# Altium footprint library WE-SHC.PcbLib: 139 footprints (part 5 of 10)
Each footprint in its own frame and in the unit in brackets; x right, y up, seen from the top. Pads: shape width x height; smd on the part's side, far side on the other; paste and mask are expansions set on the pad; w line width, h text height; cw(c..) or ccw(c..) is an arc to the next point about the centre after c.
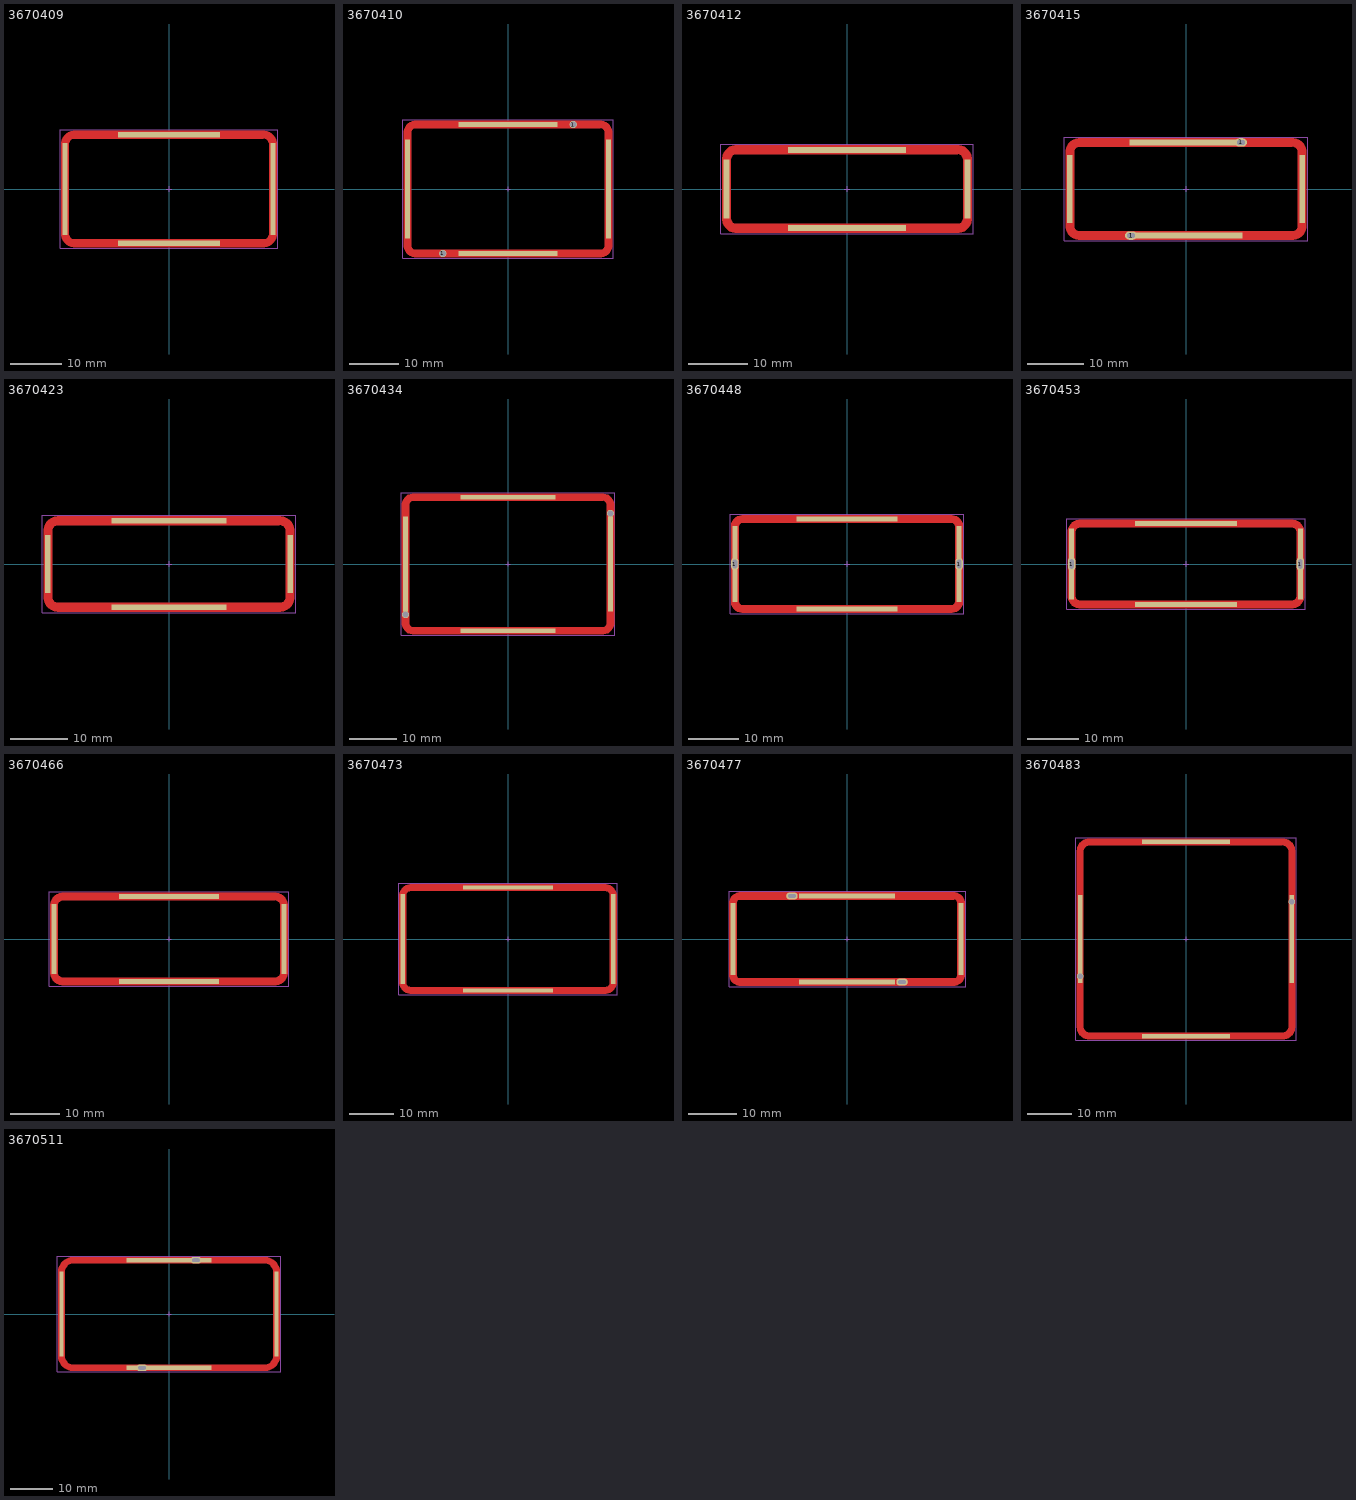
[diagram p4: the footprints below, top view; thin cyan lines are the x and y axes]

## 3670409 [mm] "Shielding Cabinet, SMT Frame Seamless, 40.9x21.5x2.5mm"
height 2.5
pads (4):
  rect 1x18 smd paste-2539.97 mask-2222: 1(-20.3,0) 1(20.3,0)
  rect 20x1 smd paste-2539.97 mask-2222: 1(0,-10.6) 1(0,10.6)
Top Layer:
  region: -21.05,-0.25 -21.05,-8.75 -21.05,-9.006 -20.95,-9.508 -20.754,-9.982 -20.47,-10.407 -20.107,-10.77 -19.682,-11.054 -19.208,-11.25 -18.706,-11.35 -18.45,-11.35 18.45,-11.35 18.706,-11.35 19.208,-11.25 19.682,-11.054 20.107,-10.77 20.47,-10.407 20.754,-9.982 20.95,-9.508 21.05,-9.006 21.05,-8.75 21.05,-0.25 19.55,-0.25 19.55,-8.75 19.545,-8.858 19.503,-9.069 19.42,-9.269 19.3,-9.448 19.148,-9.6 18.969,-9.72 18.769,-9.803 18.558,-9.845 18.45,-9.85 -18.45,-9.85 -18.558,-9.845 -18.769,-9.803 -18.969,-9.72 -19.148,-9.6 -19.3,-9.448 -19.42,-9.269 -19.503,-9.069 -19.545,-8.858 -19.55,-8.75 -19.55,-0.25
  region: -21.05,-1 -21.05,8.75 -21.05,9.006 -20.95,9.508 -20.754,9.982 -20.47,10.407 -20.107,10.77 -19.682,11.054 -19.208,11.25 -18.706,11.35 -18.45,11.35 18.45,11.35 18.706,11.35 19.208,11.25 19.682,11.054 20.107,10.77 20.47,10.407 20.754,9.982 20.95,9.508 21.05,9.006 21.05,8.75 21.05,-1 19.55,-1 19.55,8.75 19.545,8.858 19.503,9.069 19.42,9.269 19.3,9.448 19.148,9.6 18.969,9.72 18.769,9.803 18.558,9.845 18.45,9.85 -18.45,9.85 -18.558,9.845 -18.769,9.803 -18.969,9.72 -19.148,9.6 -19.3,9.448 -19.42,9.269 -19.503,9.069 -19.545,8.858 -19.55,8.75 -19.55,-1
Top Paste:
  region: -21.05,0.25 -21.05,8.75 -21.05,9.006 -20.95,9.508 -20.754,9.982 -20.47,10.407 -20.107,10.77 -19.682,11.054 -19.208,11.25 -18.706,11.35 -18.45,11.35 18.45,11.35 18.706,11.35 19.208,11.25 19.682,11.054 20.107,10.77 20.47,10.407 20.754,9.982 20.95,9.508 21.05,9.006 21.05,8.75 21.05,0.25 19.55,0.25 19.55,8.75 19.545,8.858 19.503,9.069 19.42,9.269 19.3,9.448 19.148,9.6 18.969,9.72 18.769,9.803 18.558,9.845 18.45,9.85 -18.45,9.85 -18.558,9.845 -18.769,9.803 -18.969,9.72 -19.148,9.6 -19.3,9.448 -19.42,9.269 -19.503,9.069 -19.545,8.858 -19.55,8.75 -19.55,0.25
  region: -21.05,-0.25 -21.05,-8.75 -21.05,-9.006 -20.95,-9.508 -20.754,-9.982 -20.47,-10.407 -20.107,-10.77 -19.682,-11.054 -19.208,-11.25 -18.706,-11.35 -18.45,-11.35 18.45,-11.35 18.706,-11.35 19.208,-11.25 19.682,-11.054 20.107,-10.77 20.47,-10.407 20.754,-9.982 20.95,-9.508 21.05,-9.006 21.05,-8.75 21.05,-0.25 19.55,-0.25 19.55,-8.75 19.545,-8.858 19.503,-9.069 19.42,-9.269 19.3,-9.448 19.148,-9.6 18.969,-9.72 18.769,-9.803 18.558,-9.845 18.45,-9.85 -18.45,-9.85 -18.558,-9.845 -18.769,-9.803 -18.969,-9.72 -19.148,-9.6 -19.3,-9.448 -19.42,-9.269 -19.503,-9.069 -19.545,-8.858 -19.55,-8.75 -19.55,-0.25
Assembly Notes:
  text "recommended tin paste thickness=0.5mm / customer to define the final stencil gap" at -6.15,-13 h0.4
Top Component Outline:
  lines w0.1: -20.45,-8.75 ccw(c-18.45,-8.75) -18.45,-10.75 18.45,-10.75 ccw(c18.45,-8.75) 20.45,-8.75 20.45,8.75 ccw(c18.45,8.75) 18.45,10.75 -18.45,10.75 ccw(c-18.45,8.75) -20.45,8.75 -20.45,-8.75
Top 3D Body:
  lines w0.1: -20.45,-8.75 ccw(c-18.45,-8.75) -18.45,-10.75 18.45,-10.75 ccw(c18.45,-8.75) 20.45,-8.75 20.45,8.75 ccw(c18.45,8.75) 18.45,10.75 -18.45,10.75 ccw(c-18.45,8.75) -20.45,8.75 -20.45,-8.75
Top Courtyard:
  lines w0.05: -21.25,-11.55 21.25,-11.55 21.25,11.55 -21.25,11.55 -21.25,-11.55
Top Component Center:
  lines w0.05: -0.5,0 0.5,0 ; 0,-0.5 0,0.5
Top Designator (Mech19):
  text ".Designator" at -7.498,-0.5 h1.5
3D body "3670409.stp": height 2.5, standoff 0, extent -20.45,-10.75 20.45,10.75

## 3670410 [mm] "Shielding Cabinet, SMT Frame Seamless, 41x26.4x3.7mm"
height 3.7
pads (6):
  rect 1x20 smd paste-2539.97 mask-2222: 1(-20.35,0) 1(20.35,0)
  round 1.5 hole 1.3: 1(-13.2,-13.05) 1(13.2,13.05)
  rect 20x1 smd paste-2539.97 mask-2222: 1(0,-13.05) 1(0,13.05)
Top Layer:
  region: -21.1,-1 -21.1,11.4 -21.1,11.636 -21.008,12.1 -20.827,12.537 -20.564,12.93 -20.23,13.264 -19.837,13.527 -19.4,13.708 -18.936,13.8 -18.7,13.8 18.7,13.8 18.936,13.8 19.4,13.708 19.837,13.527 20.23,13.264 20.564,12.93 20.827,12.537 21.008,12.1 21.1,11.636 21.1,11.4 21.1,-1 19.6,-1 19.6,11.4 19.596,11.488 19.561,11.661 19.494,11.824 19.396,11.971 19.271,12.096 19.124,12.194 18.961,12.261 18.788,12.296 18.7,12.3 -18.7,12.3 -18.788,12.296 -18.961,12.261 -19.124,12.194 -19.271,12.096 -19.396,11.971 -19.494,11.824 -19.561,11.661 -19.596,11.488 -19.6,11.4 -19.6,-1
  region: -21.1,-0.25 -21.1,-11.4 -21.1,-11.636 -21.008,-12.1 -20.827,-12.537 -20.564,-12.93 -20.23,-13.264 -19.837,-13.527 -19.4,-13.708 -18.936,-13.8 -18.7,-13.8 18.7,-13.8 18.936,-13.8 19.4,-13.708 19.837,-13.527 20.23,-13.264 20.564,-12.93 20.827,-12.537 21.008,-12.1 21.1,-11.636 21.1,-11.4 21.1,-0.25 19.6,-0.25 19.6,-11.4 19.596,-11.488 19.561,-11.661 19.494,-11.824 19.396,-11.971 19.271,-12.096 19.124,-12.194 18.961,-12.261 18.788,-12.296 18.7,-12.3 -18.7,-12.3 -18.788,-12.296 -18.961,-12.261 -19.124,-12.194 -19.271,-12.096 -19.396,-11.971 -19.494,-11.824 -19.561,-11.661 -19.596,-11.488 -19.6,-11.4 -19.6,-0.25
Top Paste:
  region: -21.1,-0.25 -21.1,-11.4 -21.1,-11.636 -21.008,-12.1 -20.827,-12.537 -20.564,-12.93 -20.23,-13.264 -19.837,-13.527 -19.4,-13.708 -18.936,-13.8 -18.7,-13.8 18.7,-13.8 18.936,-13.8 19.4,-13.708 19.837,-13.527 20.23,-13.264 20.564,-12.93 20.827,-12.537 21.008,-12.1 21.1,-11.636 21.1,-11.4 21.1,-0.25 19.6,-0.25 19.6,-11.4 19.596,-11.488 19.561,-11.661 19.494,-11.824 19.396,-11.971 19.271,-12.096 19.124,-12.194 18.961,-12.261 18.788,-12.296 18.7,-12.3 -18.7,-12.3 -18.788,-12.296 -18.961,-12.261 -19.124,-12.194 -19.271,-12.096 -19.396,-11.971 -19.494,-11.824 -19.561,-11.661 -19.596,-11.488 -19.6,-11.4 -19.6,-0.25
  region: -21.1,0.25 -21.1,11.4 -21.1,11.636 -21.008,12.1 -20.827,12.537 -20.564,12.93 -20.23,13.264 -19.837,13.527 -19.4,13.708 -18.936,13.8 -18.7,13.8 18.7,13.8 18.936,13.8 19.4,13.708 19.837,13.527 20.23,13.264 20.564,12.93 20.827,12.537 21.008,12.1 21.1,11.636 21.1,11.4 21.1,0.25 19.6,0.25 19.6,11.4 19.596,11.488 19.561,11.661 19.494,11.824 19.396,11.971 19.271,12.096 19.124,12.194 18.961,12.261 18.788,12.296 18.7,12.3 -18.7,12.3 -18.788,12.296 -18.961,12.261 -19.124,12.194 -19.271,12.096 -19.396,11.971 -19.494,11.824 -19.561,11.661 -19.596,11.488 -19.6,11.4 -19.6,0.25
Assembly Notes:
  text "recommended tin paste thickness=0.5mm / customer to define the final stencil gap" at -6.35,-15.45 h0.4
Top Component Outline:
  lines w0.1: -20.5,-11.45 ccw(c-18.75,-11.45) -18.75,-13.2 18.75,-13.2 ccw(c18.75,-11.45) 20.5,-11.45 20.5,11.45 ccw(c18.75,11.45) 18.75,13.2 -18.75,13.2 ccw(c-18.75,11.45) -20.5,11.45 -20.5,-11.45
Top 3D Body:
  lines w0.1: -20.5,-11.45 ccw(c-18.75,-11.45) -18.75,-13.2 18.75,-13.2 ccw(c18.75,-11.45) 20.5,-11.45 20.5,11.45 ccw(c18.75,11.45) 18.75,13.2 -18.75,13.2 ccw(c-18.75,11.45) -20.5,11.45 -20.5,-11.45
Top Courtyard:
  lines w0.05: -21.3,-14 21.3,-14 21.3,14 -21.3,14 -21.3,-14
Top Component Center:
  lines w0.05: -0.5,0 0.5,0 ; 0,-0.5 0,0.5
Top Designator (Mech19):
  text ".Designator" at -7.498,-0.5 h1.5
3D body "3670410.stp": height 3.7, standoff -1, extent -20.5,-13.2 20.5,13.2

## 3670412 [mm] "Shielding Cabinet, SMT Frame Seamless, 41.2x13.6x5.1mm"
height 5.1
pads (4):
  rect 1x10 smd paste-2539.97 mask-2222: 1(-20.45,0) 1(20.45,0)
  rect 20x1 smd paste-2539.97 mask-2222: 1(0,-6.65) 1(0,6.65)
Top Layer:
  region: -21.2,-1 -21.2,5 -21.2,5.236 -21.108,5.7 -20.927,6.137 -20.664,6.53 -20.33,6.864 -19.937,7.127 -19.5,7.308 -19.036,7.4 -18.8,7.4 18.8,7.4 19.036,7.4 19.5,7.308 19.937,7.127 20.33,6.864 20.664,6.53 20.927,6.137 21.108,5.7 21.2,5.236 21.2,5 21.2,-1 19.7,-1 19.7,5 19.696,5.088 19.661,5.261 19.594,5.424 19.496,5.571 19.371,5.696 19.224,5.794 19.061,5.861 18.888,5.896 18.8,5.9 -18.8,5.9 -18.888,5.896 -19.061,5.861 -19.224,5.794 -19.371,5.696 -19.496,5.571 -19.594,5.424 -19.661,5.261 -19.696,5.088 -19.7,5 -19.7,-1
  region: -21.2,-0.25 -21.2,-5 -21.2,-5.236 -21.108,-5.7 -20.927,-6.137 -20.664,-6.53 -20.33,-6.864 -19.937,-7.127 -19.5,-7.308 -19.036,-7.4 -18.8,-7.4 18.8,-7.4 19.036,-7.4 19.5,-7.308 19.937,-7.127 20.33,-6.864 20.664,-6.53 20.927,-6.137 21.108,-5.7 21.2,-5.236 21.2,-5 21.2,-0.25 19.7,-0.25 19.7,-5 19.696,-5.088 19.661,-5.261 19.594,-5.424 19.496,-5.571 19.371,-5.696 19.224,-5.794 19.061,-5.861 18.888,-5.896 18.8,-5.9 -18.8,-5.9 -18.888,-5.896 -19.061,-5.861 -19.224,-5.794 -19.371,-5.696 -19.496,-5.571 -19.594,-5.424 -19.661,-5.261 -19.696,-5.088 -19.7,-5 -19.7,-0.25
Top Paste:
  region: -21.2,-0.25 -21.2,-5 -21.2,-5.236 -21.108,-5.7 -20.927,-6.137 -20.664,-6.53 -20.33,-6.864 -19.937,-7.127 -19.5,-7.308 -19.036,-7.4 -18.8,-7.4 18.8,-7.4 19.036,-7.4 19.5,-7.308 19.937,-7.127 20.33,-6.864 20.664,-6.53 20.927,-6.137 21.108,-5.7 21.2,-5.236 21.2,-5 21.2,-0.25 19.7,-0.25 19.7,-5 19.696,-5.088 19.661,-5.261 19.594,-5.424 19.496,-5.571 19.371,-5.696 19.224,-5.794 19.061,-5.861 18.888,-5.896 18.8,-5.9 -18.8,-5.9 -18.888,-5.896 -19.061,-5.861 -19.224,-5.794 -19.371,-5.696 -19.496,-5.571 -19.594,-5.424 -19.661,-5.261 -19.696,-5.088 -19.7,-5 -19.7,-0.25
  region: -21.2,0.25 -21.2,5 -21.2,5.236 -21.108,5.7 -20.927,6.137 -20.664,6.53 -20.33,6.864 -19.937,7.127 -19.5,7.308 -19.036,7.4 -18.8,7.4 18.8,7.4 19.036,7.4 19.5,7.308 19.937,7.127 20.33,6.864 20.664,6.53 20.927,6.137 21.108,5.7 21.2,5.236 21.2,5 21.2,0.25 19.7,0.25 19.7,5 19.696,5.088 19.661,5.261 19.594,5.424 19.496,5.571 19.371,5.696 19.224,5.794 19.061,5.861 18.888,5.896 18.8,5.9 -18.8,5.9 -18.888,5.896 -19.061,5.861 -19.224,5.794 -19.371,5.696 -19.496,5.571 -19.594,5.424 -19.661,5.261 -19.696,5.088 -19.7,5 -19.7,0.25
Assembly Notes:
  text "recommended tin paste thickness=0.5mm / customer to define the final stencil gap" at -5.65,-9 h0.4
Top Component Outline:
  lines w0.1: -20.6,-5.05 ccw(c-18.85,-5.05) -18.85,-6.8 18.85,-6.8 ccw(c18.85,-5.05) 20.6,-5.05 20.6,5.05 ccw(c18.85,5.05) 18.85,6.8 -18.85,6.8 ccw(c-18.85,5.05) -20.6,5.05 -20.6,-5.05
Top 3D Body:
  lines w0.1: -20.6,-5.05 ccw(c-18.85,-5.05) -18.85,-6.8 18.85,-6.8 ccw(c18.85,-5.05) 20.6,-5.05 20.6,5.05 ccw(c18.85,5.05) 18.85,6.8 -18.85,6.8 ccw(c-18.85,5.05) -20.6,5.05 -20.6,-5.05
Top Courtyard:
  lines w0.05: -21.4,-7.6 21.4,-7.6 21.4,7.6 -21.4,7.6 -21.4,-7.6
Top Component Center:
  lines w0.05: -0.5,0 0.5,0 ; 0,-0.5 0,0.5
Top Designator (Mech19):
  text ".Designator" at -7.498,-0.5 h1.5
3D body "3670412.stp": height 5.1, standoff 0, extent -20.6,-6.8 20.6,6.8

## 3670415 [mm] "Shielding Cabinet, SMT Frame Seamless, 41.5x16.8x6.8mm"
height 6.8
pads (6):
  rect 1x12 smd paste-2539.97 mask-2222: 1(-20.6,0) 1(20.6,0)
  oval 2.1x1.5 hole 0.8 slot 1.4 at 0 deg: 1(-9.75,-8.25) 1(9.75,8.25)
  rect 20x1 smd paste-2539.97 mask-2222: 1(0,-8.25) 1(0,8.25)
Top Layer:
  region: -21.35,-1 -21.35,6.5 -21.35,6.746 -21.254,7.229 -21.065,7.684 -20.792,8.094 -20.444,8.442 -20.034,8.715 -19.579,8.904 -19.096,9 -18.85,9 18.85,9 19.096,9 19.579,8.904 20.034,8.715 20.444,8.442 20.792,8.094 21.065,7.684 21.254,7.229 21.35,6.746 21.35,6.5 21.35,-1 19.85,-1 19.85,6.5 19.845,6.598 19.807,6.79 19.732,6.971 19.623,7.134 19.484,7.273 19.321,7.382 19.14,7.457 18.948,7.495 18.85,7.5 -18.85,7.5 -18.948,7.495 -19.14,7.457 -19.321,7.382 -19.484,7.273 -19.623,7.134 -19.732,6.971 -19.807,6.79 -19.845,6.598 -19.85,6.5 -19.85,-1
  region: -21.35,-0.25 -21.35,-6.5 -21.35,-6.746 -21.254,-7.229 -21.065,-7.684 -20.792,-8.094 -20.444,-8.442 -20.034,-8.715 -19.579,-8.904 -19.096,-9 -18.85,-9 18.85,-9 19.096,-9 19.579,-8.904 20.034,-8.715 20.444,-8.442 20.792,-8.094 21.065,-7.684 21.254,-7.229 21.35,-6.746 21.35,-6.5 21.35,-0.25 19.85,-0.25 19.85,-6.5 19.845,-6.598 19.807,-6.79 19.732,-6.971 19.623,-7.134 19.484,-7.273 19.321,-7.382 19.14,-7.457 18.948,-7.495 18.85,-7.5 -18.85,-7.5 -18.948,-7.495 -19.14,-7.457 -19.321,-7.382 -19.484,-7.273 -19.623,-7.134 -19.732,-6.971 -19.807,-6.79 -19.845,-6.598 -19.85,-6.5 -19.85,-0.25
Top Paste:
  region: -21.35,-0.25 -21.35,-6.5 -21.35,-6.746 -21.254,-7.229 -21.065,-7.684 -20.792,-8.094 -20.444,-8.442 -20.034,-8.715 -19.579,-8.904 -19.096,-9 -18.85,-9 18.85,-9 19.096,-9 19.579,-8.904 20.034,-8.715 20.444,-8.442 20.792,-8.094 21.065,-7.684 21.254,-7.229 21.35,-6.746 21.35,-6.5 21.35,-0.25 19.85,-0.25 19.85,-6.5 19.845,-6.598 19.807,-6.79 19.732,-6.971 19.623,-7.134 19.484,-7.273 19.321,-7.382 19.14,-7.457 18.948,-7.495 18.85,-7.5 -18.85,-7.5 -18.948,-7.495 -19.14,-7.457 -19.321,-7.382 -19.484,-7.273 -19.623,-7.134 -19.732,-6.971 -19.807,-6.79 -19.845,-6.598 -19.85,-6.5 -19.85,-0.25
  region: -21.35,0.25 -21.35,6.5 -21.35,6.746 -21.254,7.229 -21.065,7.684 -20.792,8.094 -20.444,8.442 -20.034,8.715 -19.579,8.904 -19.096,9 -18.85,9 18.85,9 19.096,9 19.579,8.904 20.034,8.715 20.444,8.442 20.792,8.094 21.065,7.684 21.254,7.229 21.35,6.746 21.35,6.5 21.35,0.25 19.85,0.25 19.85,6.5 19.845,6.598 19.807,6.79 19.732,6.971 19.623,7.134 19.484,7.273 19.321,7.382 19.14,7.457 18.948,7.495 18.85,7.5 -18.85,7.5 -18.948,7.495 -19.14,7.457 -19.321,7.382 -19.484,7.273 -19.623,7.134 -19.732,6.971 -19.807,6.79 -19.845,6.598 -19.85,6.5 -19.85,0.25
Assembly Notes:
  text "recommended tin paste thickness=0.5mm / customer to define the final stencil gap" at -5.6,-10.7 h0.4
Top Component Outline:
  lines w0.1: -20.75,-6.4 ccw(c-18.75,-6.4) -18.75,-8.4 18.75,-8.4 ccw(c18.75,-6.4) 20.75,-6.4 20.75,6.4 ccw(c18.75,6.4) 18.75,8.4 -18.75,8.4 ccw(c-18.75,6.4) -20.75,6.4 -20.75,-6.4
Top 3D Body:
  lines w0.1: -20.75,-6.4 ccw(c-18.75,-6.4) -18.75,-8.4 18.75,-8.4 ccw(c18.75,-6.4) 20.75,-6.4 20.75,6.4 ccw(c18.75,6.4) 18.75,8.4 -18.75,8.4 ccw(c-18.75,6.4) -20.75,6.4 -20.75,-6.4
Top Courtyard:
  lines w0.05: -21.55,-9.2 -21.55,9.2 21.55,9.2 21.55,-9.2 -21.55,-9.2
Top Component Center:
  lines w0.05: -0.5,0 0.5,0 ; 0,-0.5 0,0.5
Top Designator (Mech19):
  text ".Designator" at -7.498,-0.5 h1.5
3D body "3670415.stp": height 6.8, standoff -1.2, extent -20.75,-8.4 20.75,8.4

## 3670423 [mm] "Shielding Cabinet, SMT Frame Seamless, 42.3x15.3x4.4mm"
height 4.4
pads (4):
  rect 1x10 smd paste-2539.97 mask-2222: 1(-21,0) 1(21,0)
  rect 20x1 smd paste-2539.97 mask-2222: 1(0,-7.5) 1(0,7.5)
Top Layer:
  region: -21.75,-0.25 -21.75,-5.65 -21.75,-5.906 -21.65,-6.408 -21.454,-6.882 -21.17,-7.307 -20.807,-7.67 -20.382,-7.954 -19.908,-8.15 -19.406,-8.25 -19.15,-8.25 19.15,-8.25 19.406,-8.25 19.908,-8.15 20.382,-7.954 20.807,-7.67 21.17,-7.307 21.454,-6.882 21.65,-6.408 21.75,-5.906 21.75,-5.65 21.75,-0.25 20.25,-0.25 20.25,-5.65 20.245,-5.758 20.203,-5.969 20.12,-6.169 20,-6.348 19.848,-6.5 19.669,-6.62 19.469,-6.703 19.258,-6.745 19.15,-6.75 -19.15,-6.75 -19.258,-6.745 -19.469,-6.703 -19.669,-6.62 -19.848,-6.5 -20,-6.348 -20.12,-6.169 -20.203,-5.969 -20.245,-5.758 -20.25,-5.65 -20.25,-0.25
  region: -21.75,-1 -21.75,5.65 -21.75,5.906 -21.65,6.408 -21.454,6.882 -21.17,7.307 -20.807,7.67 -20.382,7.954 -19.908,8.15 -19.406,8.25 -19.15,8.25 19.15,8.25 19.406,8.25 19.908,8.15 20.382,7.954 20.807,7.67 21.17,7.307 21.454,6.882 21.65,6.408 21.75,5.906 21.75,5.65 21.75,-1 20.25,-1 20.25,5.65 20.245,5.758 20.203,5.969 20.12,6.169 20,6.348 19.848,6.5 19.669,6.62 19.469,6.703 19.258,6.745 19.15,6.75 -19.15,6.75 -19.258,6.745 -19.469,6.703 -19.669,6.62 -19.848,6.5 -20,6.348 -20.12,6.169 -20.203,5.969 -20.245,5.758 -20.25,5.65 -20.25,-1
Top Paste:
  region: -21.75,0.25 -21.75,5.65 -21.75,5.906 -21.65,6.408 -21.454,6.882 -21.17,7.307 -20.807,7.67 -20.382,7.954 -19.908,8.15 -19.406,8.25 -19.15,8.25 19.15,8.25 19.406,8.25 19.908,8.15 20.382,7.954 20.807,7.67 21.17,7.307 21.454,6.882 21.65,6.408 21.75,5.906 21.75,5.65 21.75,0.25 20.25,0.25 20.25,5.65 20.245,5.758 20.203,5.969 20.12,6.169 20,6.348 19.848,6.5 19.669,6.62 19.469,6.703 19.258,6.745 19.15,6.75 -19.15,6.75 -19.258,6.745 -19.469,6.703 -19.669,6.62 -19.848,6.5 -20,6.348 -20.12,6.169 -20.203,5.969 -20.245,5.758 -20.25,5.65 -20.25,0.25
  region: -21.75,-0.25 -21.75,-5.65 -21.75,-5.906 -21.65,-6.408 -21.454,-6.882 -21.17,-7.307 -20.807,-7.67 -20.382,-7.954 -19.908,-8.15 -19.406,-8.25 -19.15,-8.25 19.15,-8.25 19.406,-8.25 19.908,-8.15 20.382,-7.954 20.807,-7.67 21.17,-7.307 21.454,-6.882 21.65,-6.408 21.75,-5.906 21.75,-5.65 21.75,-0.25 20.25,-0.25 20.25,-5.65 20.245,-5.758 20.203,-5.969 20.12,-6.169 20,-6.348 19.848,-6.5 19.669,-6.62 19.469,-6.703 19.258,-6.745 19.15,-6.75 -19.15,-6.75 -19.258,-6.745 -19.469,-6.703 -19.669,-6.62 -19.848,-6.5 -20,-6.348 -20.12,-6.169 -20.203,-5.969 -20.245,-5.758 -20.25,-5.65 -20.25,-0.25
Assembly Notes:
  text "recommended tin paste thickness=0.5mm / customer to define the final stencil gap" at -5.9,-9.85 h0.4
Top Component Outline:
  lines w0.1: -21.15,-5.65 ccw(c-19.15,-5.65) -19.15,-7.65 19.15,-7.65 ccw(c19.15,-5.65) 21.15,-5.65 21.15,5.65 ccw(c19.15,5.65) 19.15,7.65 -19.15,7.65 ccw(c-19.15,5.65) -21.15,5.65 -21.15,-5.65
Top 3D Body:
  lines w0.1: -21.15,-5.65 ccw(c-19.15,-5.65) -19.15,-7.65 19.15,-7.65 ccw(c19.15,-5.65) 21.15,-5.65 21.15,5.65 ccw(c19.15,5.65) 19.15,7.65 -19.15,7.65 ccw(c-19.15,5.65) -21.15,5.65 -21.15,-5.65
Top Courtyard:
  lines w0.05: -21.95,-8.45 21.95,-8.45 21.95,8.45 -21.95,8.45 -21.95,-8.45
Top Component Center:
  lines w0.05: -0.5,0 0.5,0 ; 0,-0.5 0,0.5
Top Designator (Mech19):
  text ".Designator" at -7.498,-0.5 h1.5
3D body "3670423.stp": height 4.4, standoff 0, extent -21.15,-7.65 21.15,7.65

## 3670434 [mm] "Shielding Cabinet, SMT Frame Seamless, 43.4x28.4x3.3mm"
height 3.3
pads (6):
  round 1.5 hole 1.3: 1(-21.55,-10.65) 1(21.55,10.65)
  rect 1x20 smd paste-2539.97 mask-2222: 1(-21.55,0) 1(21.55,0)
  rect 20x1 smd paste-2539.97 mask-2222: 1(0,-14.05) 1(0,14.05)
Top Layer:
  region: -22.3,-0.25 -22.3,-12.4 -22.3,-12.636 -22.208,-13.1 -22.027,-13.537 -21.764,-13.93 -21.43,-14.264 -21.037,-14.527 -20.6,-14.708 -20.136,-14.8 -19.9,-14.8 19.9,-14.8 20.136,-14.8 20.6,-14.708 21.037,-14.527 21.43,-14.264 21.764,-13.93 22.027,-13.537 22.208,-13.1 22.3,-12.636 22.3,-12.4 22.3,-0.25 20.8,-0.25 20.8,-12.4 20.796,-12.488 20.761,-12.661 20.694,-12.824 20.596,-12.971 20.471,-13.096 20.324,-13.194 20.161,-13.261 19.988,-13.296 19.9,-13.3 -19.9,-13.3 -19.988,-13.296 -20.161,-13.261 -20.324,-13.194 -20.471,-13.096 -20.596,-12.971 -20.694,-12.824 -20.761,-12.661 -20.796,-12.488 -20.8,-12.4 -20.8,-0.25
  region: -22.3,-1 -22.3,12.4 -22.3,12.636 -22.208,13.1 -22.027,13.537 -21.764,13.93 -21.43,14.264 -21.037,14.527 -20.6,14.708 -20.136,14.8 -19.9,14.8 19.9,14.8 20.136,14.8 20.6,14.708 21.037,14.527 21.43,14.264 21.764,13.93 22.027,13.537 22.208,13.1 22.3,12.636 22.3,12.4 22.3,-1 20.8,-1 20.8,12.4 20.796,12.488 20.761,12.661 20.694,12.824 20.596,12.971 20.471,13.096 20.324,13.194 20.161,13.261 19.988,13.296 19.9,13.3 -19.9,13.3 -19.988,13.296 -20.161,13.261 -20.324,13.194 -20.471,13.096 -20.596,12.971 -20.694,12.824 -20.761,12.661 -20.796,12.488 -20.8,12.4 -20.8,-1
Top Paste:
  region: -22.3,0.25 -22.3,12.4 -22.3,12.636 -22.208,13.1 -22.027,13.537 -21.764,13.93 -21.43,14.264 -21.037,14.527 -20.6,14.708 -20.136,14.8 -19.9,14.8 19.9,14.8 20.136,14.8 20.6,14.708 21.037,14.527 21.43,14.264 21.764,13.93 22.027,13.537 22.208,13.1 22.3,12.636 22.3,12.4 22.3,0.25 20.8,0.25 20.8,12.4 20.796,12.488 20.761,12.661 20.694,12.824 20.596,12.971 20.471,13.096 20.324,13.194 20.161,13.261 19.988,13.296 19.9,13.3 -19.9,13.3 -19.988,13.296 -20.161,13.261 -20.324,13.194 -20.471,13.096 -20.596,12.971 -20.694,12.824 -20.761,12.661 -20.796,12.488 -20.8,12.4 -20.8,0.25
  region: -22.3,-0.25 -22.3,-12.4 -22.3,-12.636 -22.208,-13.1 -22.027,-13.537 -21.764,-13.93 -21.43,-14.264 -21.037,-14.527 -20.6,-14.708 -20.136,-14.8 -19.9,-14.8 19.9,-14.8 20.136,-14.8 20.6,-14.708 21.037,-14.527 21.43,-14.264 21.764,-13.93 22.027,-13.537 22.208,-13.1 22.3,-12.636 22.3,-12.4 22.3,-0.25 20.8,-0.25 20.8,-12.4 20.796,-12.488 20.761,-12.661 20.694,-12.824 20.596,-12.971 20.471,-13.096 20.324,-13.194 20.161,-13.261 19.988,-13.296 19.9,-13.3 -19.9,-13.3 -19.988,-13.296 -20.161,-13.261 -20.324,-13.194 -20.471,-13.096 -20.596,-12.971 -20.694,-12.824 -20.761,-12.661 -20.796,-12.488 -20.8,-12.4 -20.8,-0.25
Assembly Notes:
  text "recommended tin paste thickness=0.5mm / customer to define the final stencil gap" at -5.95,-16.5 h0.4
Top Component Outline:
  lines w0.1: -21.7,-12.45 ccw(c-19.95,-12.45) -19.95,-14.2 19.95,-14.2 ccw(c19.95,-12.45) 21.7,-12.45 21.7,12.45 ccw(c19.95,12.45) 19.95,14.2 -19.95,14.2 ccw(c-19.95,12.45) -21.7,12.45 -21.7,-12.45
Top 3D Body:
  lines w0.1: -21.7,-12.45 ccw(c-19.95,-12.45) -19.95,-14.2 19.95,-14.2 ccw(c19.95,-12.45) 21.7,-12.45 21.7,12.45 ccw(c19.95,12.45) 19.95,14.2 -19.95,14.2 ccw(c-19.95,12.45) -21.7,12.45 -21.7,-12.45
Top Courtyard:
  lines w0.05: -22.5,-15 -22.5,15 22.5,15 22.5,-15 -22.5,-15
Top Component Center:
  lines w0.05: -0.5,0 0.5,0 ; 0,-0.5 0,0.5
Top Designator (Mech19):
  text ".Designator" at -7.498,-0.5 h1.5
3D body "3670434.stp": height 3.3, standoff -1, extent -21.7,-14.2 21.7,14.2

## 3670448 [mm] "Shielding Cabinet, SMT Frame Seamless, 44.8x18.2x3mm"
height 3
pads (6):
  rect 1x15 smd paste-2539.97 mask-2222: 1(-22.25,0) 1(22.25,0)
  oval 1.5x2.5 hole 0.9 slot 1.7 at 90 deg: 1(-22.25,0) 1(22.25,0)
  rect 20x1 smd paste-2539.97 mask-2222: 1(0,-8.95) 1(0,8.95)
Top Layer:
  region: 23,-7.3 23,7.3 23,7.536 22.908,8 22.727,8.437 22.464,8.83 22.13,9.164 21.737,9.427 21.3,9.608 20.836,9.7 20.6,9.7 0.25,9.7 0.25,8.2 20.6,8.2 20.688,8.196 20.861,8.161 21.024,8.094 21.171,7.996 21.296,7.871 21.394,7.724 21.461,7.561 21.496,7.388 21.5,7.3 21.5,-7.3 21.496,-7.388 21.461,-7.561 21.394,-7.724 21.296,-7.871 21.171,-7.996 21.024,-8.094 20.861,-8.161 20.688,-8.196 20.6,-8.2 0.25,-8.2 0.25,-9.7 20.6,-9.7 20.836,-9.7 21.3,-9.608 21.737,-9.427 22.13,-9.164 22.464,-8.83 22.727,-8.437 22.908,-8 23,-7.536
  region: -23,-7.3 -23,7.3 -23,7.536 -22.908,8 -22.727,8.437 -22.464,8.83 -22.13,9.164 -21.737,9.427 -21.3,9.608 -20.836,9.7 -20.6,9.7 1,9.7 1,8.2 -20.6,8.2 -20.688,8.196 -20.861,8.161 -21.024,8.094 -21.171,7.996 -21.296,7.871 -21.394,7.724 -21.461,7.561 -21.496,7.388 -21.5,7.3 -21.5,-7.3 -21.496,-7.388 -21.461,-7.561 -21.394,-7.724 -21.296,-7.871 -21.171,-7.996 -21.024,-8.094 -20.861,-8.161 -20.688,-8.196 -20.6,-8.2 1,-8.2 1,-9.7 -20.6,-9.7 -20.836,-9.7 -21.3,-9.608 -21.737,-9.427 -22.13,-9.164 -22.464,-8.83 -22.727,-8.437 -22.908,-8 -23,-7.536
Top Paste:
  region: -23,-7.3 -23,7.3 -23,7.536 -22.908,8 -22.727,8.437 -22.464,8.83 -22.13,9.164 -21.737,9.427 -21.3,9.608 -20.836,9.7 -20.6,9.7 -0.25,9.7 -0.25,8.2 -20.6,8.2 -20.688,8.196 -20.861,8.161 -21.024,8.094 -21.171,7.996 -21.296,7.871 -21.394,7.724 -21.461,7.561 -21.496,7.388 -21.5,7.3 -21.5,-7.3 -21.496,-7.388 -21.461,-7.561 -21.394,-7.724 -21.296,-7.871 -21.171,-7.996 -21.024,-8.094 -20.861,-8.161 -20.688,-8.196 -20.6,-8.2 -0.25,-8.2 -0.25,-9.7 -20.6,-9.7 -20.836,-9.7 -21.3,-9.608 -21.737,-9.427 -22.13,-9.164 -22.464,-8.83 -22.727,-8.437 -22.908,-8 -23,-7.536
  region: 23,-7.3 23,7.3 23,7.536 22.908,8 22.727,8.437 22.464,8.83 22.13,9.164 21.737,9.427 21.3,9.608 20.836,9.7 20.6,9.7 0.25,9.7 0.25,8.2 20.6,8.2 20.688,8.196 20.861,8.161 21.024,8.094 21.171,7.996 21.296,7.871 21.394,7.724 21.461,7.561 21.496,7.388 21.5,7.3 21.5,-7.3 21.496,-7.388 21.461,-7.561 21.394,-7.724 21.296,-7.871 21.171,-7.996 21.024,-8.094 20.861,-8.161 20.688,-8.196 20.6,-8.2 0.25,-8.2 0.25,-9.7 20.6,-9.7 20.836,-9.7 21.3,-9.608 21.737,-9.427 22.13,-9.164 22.464,-8.83 22.727,-8.437 22.908,-8 23,-7.536
Assembly Notes:
  text "recommended tin paste thickness=0.5mm / customer to define the final stencil gap" at -6.35,-11.5 h0.4
Top Component Outline:
  lines w0.1: -22.4,-7.35 ccw(c-20.65,-7.35) -20.65,-9.1 20.65,-9.1 ccw(c20.65,-7.35) 22.4,-7.35 22.4,7.35 ccw(c20.65,7.35) 20.65,9.1 -20.65,9.1 ccw(c-20.65,7.35) -22.4,7.35 -22.4,-7.35
Top 3D Body:
  lines w0.1: -22.4,-7.35 ccw(c-20.65,-7.35) -20.65,-9.1 20.65,-9.1 ccw(c20.65,-7.35) 22.4,-7.35 22.4,7.35 ccw(c20.65,7.35) 20.65,9.1 -20.65,9.1 ccw(c-20.65,7.35) -22.4,7.35 -22.4,-7.35
Top Courtyard:
  lines w0.05: -23.2,-9.9 23.2,-9.9 23.2,9.9 -23.2,9.9 -23.2,-9.9
Top Component Center:
  lines w0.05: -0.5,0 0.5,0 ; 0,-0.5 0,0.5
Top Designator (Mech19):
  text ".Designator" at -7.498,-0.5 h1.5
3D body "3670448.stp": height 3, standoff -0.5, extent -22.4,-9.1 22.4,9.1

## 3670453 [mm] "Shielding Cabinet, SMT Frame Seamless, 45.3x16.2x6mm"
height 6
pads (6):
  rect 1x14 smd paste-2539.97 mask-2222: 1(-22.5,0) 1(22.5,0)
  oval 1.5x2.7 hole 0.8 slot 1.8 at 90 deg: 1(-22.5,0) 1(22.5,0)
  rect 20x1 smd paste-2539.97 mask-2222: 1(0,-7.95) 1(0,7.95)
Top Layer:
  region: 23.25,-6.3 23.25,6.3 23.25,6.536 23.158,7 22.977,7.437 22.714,7.83 22.38,8.164 21.987,8.427 21.55,8.608 21.086,8.7 20.85,8.7 0.25,8.7 0.25,7.2 20.85,7.2 20.938,7.196 21.111,7.161 21.274,7.094 21.421,6.996 21.546,6.871 21.644,6.724 21.711,6.561 21.746,6.388 21.75,6.3 21.75,-6.3 21.746,-6.388 21.711,-6.561 21.644,-6.724 21.546,-6.871 21.421,-6.996 21.274,-7.094 21.111,-7.161 20.938,-7.196 20.85,-7.2 0.25,-7.2 0.25,-8.7 20.85,-8.7 21.086,-8.7 21.55,-8.608 21.987,-8.427 22.38,-8.164 22.714,-7.83 22.977,-7.437 23.158,-7 23.25,-6.536
  region: -23.25,-6.3 -23.25,6.3 -23.25,6.536 -23.158,7 -22.977,7.437 -22.714,7.83 -22.38,8.164 -21.987,8.427 -21.55,8.608 -21.086,8.7 -20.85,8.7 1,8.7 1,7.2 -20.85,7.2 -20.938,7.196 -21.111,7.161 -21.274,7.094 -21.421,6.996 -21.546,6.871 -21.644,6.724 -21.711,6.561 -21.746,6.388 -21.75,6.3 -21.75,-6.3 -21.746,-6.388 -21.711,-6.561 -21.644,-6.724 -21.546,-6.871 -21.421,-6.996 -21.274,-7.094 -21.111,-7.161 -20.938,-7.196 -20.85,-7.2 1,-7.2 1,-8.7 -20.85,-8.7 -21.086,-8.7 -21.55,-8.608 -21.987,-8.427 -22.38,-8.164 -22.714,-7.83 -22.977,-7.437 -23.158,-7 -23.25,-6.536
Top Paste:
  region: -23.25,-6.3 -23.25,6.3 -23.25,6.536 -23.158,7 -22.977,7.437 -22.714,7.83 -22.38,8.164 -21.987,8.427 -21.55,8.608 -21.086,8.7 -20.85,8.7 -0.25,8.7 -0.25,7.2 -20.85,7.2 -20.938,7.196 -21.111,7.161 -21.274,7.094 -21.421,6.996 -21.546,6.871 -21.644,6.724 -21.711,6.561 -21.746,6.388 -21.75,6.3 -21.75,-6.3 -21.746,-6.388 -21.711,-6.561 -21.644,-6.724 -21.546,-6.871 -21.421,-6.996 -21.274,-7.094 -21.111,-7.161 -20.938,-7.196 -20.85,-7.2 -0.25,-7.2 -0.25,-8.7 -20.85,-8.7 -21.086,-8.7 -21.55,-8.608 -21.987,-8.427 -22.38,-8.164 -22.714,-7.83 -22.977,-7.437 -23.158,-7 -23.25,-6.536
  region: 23.25,-6.3 23.25,6.3 23.25,6.536 23.158,7 22.977,7.437 22.714,7.83 22.38,8.164 21.987,8.427 21.55,8.608 21.086,8.7 20.85,8.7 0.25,8.7 0.25,7.2 20.85,7.2 20.938,7.196 21.111,7.161 21.274,7.094 21.421,6.996 21.546,6.871 21.644,6.724 21.711,6.561 21.746,6.388 21.75,6.3 21.75,-6.3 21.746,-6.388 21.711,-6.561 21.644,-6.724 21.546,-6.871 21.421,-6.996 21.274,-7.094 21.111,-7.161 20.938,-7.196 20.85,-7.2 0.25,-7.2 0.25,-8.7 20.85,-8.7 21.086,-8.7 21.55,-8.608 21.987,-8.427 22.38,-8.164 22.714,-7.83 22.977,-7.437 23.158,-7 23.25,-6.536
Assembly Notes:
  text "recommended tin paste thickness=0.5mm / customer to define the final stencil gap" at -6.2,-10.25 h0.4
Top Component Outline:
  lines w0.1: -22.65,-6.35 ccw(c-20.9,-6.35) -20.9,-8.1 20.9,-8.1 ccw(c20.9,-6.35) 22.65,-6.35 22.65,6.35 ccw(c20.9,6.35) 20.9,8.1 -20.9,8.1 ccw(c-20.9,6.35) -22.65,6.35 -22.65,-6.35
Top 3D Body:
  lines w0.1: -22.65,-6.35 ccw(c-20.9,-6.35) -20.9,-8.1 20.9,-8.1 ccw(c20.9,-6.35) 22.65,-6.35 22.65,6.35 ccw(c20.9,6.35) 20.9,8.1 -20.9,8.1 ccw(c-20.9,6.35) -22.65,6.35 -22.65,-6.35
Top Courtyard:
  lines w0.05: -23.45,-8.9 23.45,-8.9 23.45,8.9 -23.45,8.9 -23.45,-8.9
Top Component Center:
  lines w0.05: -0.5,0 0.5,0 ; 0,-0.5 0,0.5
Top Designator (Mech19):
  text ".Designator" at -7.498,-0.5 h1.5
3D body "3670453.stp": height 6, standoff -1, extent -22.65,-8.1 22.65,8.1

## 3670466 [mm] "Shielding Cabinet, SMT Frame Seamless, 46.6x17.3x5mm"
height 5
pads (4):
  rect 1x14 smd paste-2539.97 mask-2222: 1(-23.15,0) 1(23.15,0)
  rect 20x1 smd paste-2539.97 mask-2222: 1(0,-8.5) 1(0,8.5)
Top Layer:
  region: -23.9,-0.25 -23.9,-6.65 -23.9,-6.906 -23.8,-7.408 -23.604,-7.882 -23.32,-8.307 -22.957,-8.67 -22.532,-8.954 -22.058,-9.15 -21.556,-9.25 -21.3,-9.25 21.3,-9.25 21.556,-9.25 22.058,-9.15 22.532,-8.954 22.957,-8.67 23.32,-8.307 23.604,-7.882 23.8,-7.408 23.9,-6.906 23.9,-6.65 23.9,-0.25 22.4,-0.25 22.4,-6.65 22.395,-6.758 22.353,-6.969 22.27,-7.169 22.15,-7.348 21.998,-7.5 21.819,-7.62 21.619,-7.703 21.408,-7.745 21.3,-7.75 -21.3,-7.75 -21.408,-7.745 -21.619,-7.703 -21.819,-7.62 -21.998,-7.5 -22.15,-7.348 -22.27,-7.169 -22.353,-6.969 -22.395,-6.758 -22.4,-6.65 -22.4,-0.25
  region: -23.9,-1 -23.9,6.65 -23.9,6.906 -23.8,7.408 -23.604,7.882 -23.32,8.307 -22.957,8.67 -22.532,8.954 -22.058,9.15 -21.556,9.25 -21.3,9.25 21.3,9.25 21.556,9.25 22.058,9.15 22.532,8.954 22.957,8.67 23.32,8.307 23.604,7.882 23.8,7.408 23.9,6.906 23.9,6.65 23.9,-1 22.4,-1 22.4,6.65 22.395,6.758 22.353,6.969 22.27,7.169 22.15,7.348 21.998,7.5 21.819,7.62 21.619,7.703 21.408,7.745 21.3,7.75 -21.3,7.75 -21.408,7.745 -21.619,7.703 -21.819,7.62 -21.998,7.5 -22.15,7.348 -22.27,7.169 -22.353,6.969 -22.395,6.758 -22.4,6.65 -22.4,-1
Top Paste:
  region: -23.9,0.25 -23.9,6.65 -23.9,6.906 -23.8,7.408 -23.604,7.882 -23.32,8.307 -22.957,8.67 -22.532,8.954 -22.058,9.15 -21.556,9.25 -21.3,9.25 21.3,9.25 21.556,9.25 22.058,9.15 22.532,8.954 22.957,8.67 23.32,8.307 23.604,7.882 23.8,7.408 23.9,6.906 23.9,6.65 23.9,0.25 22.4,0.25 22.4,6.65 22.395,6.758 22.353,6.969 22.27,7.169 22.15,7.348 21.998,7.5 21.819,7.62 21.619,7.703 21.408,7.745 21.3,7.75 -21.3,7.75 -21.408,7.745 -21.619,7.703 -21.819,7.62 -21.998,7.5 -22.15,7.348 -22.27,7.169 -22.353,6.969 -22.395,6.758 -22.4,6.65 -22.4,0.25
  region: -23.9,-0.25 -23.9,-6.65 -23.9,-6.906 -23.8,-7.408 -23.604,-7.882 -23.32,-8.307 -22.957,-8.67 -22.532,-8.954 -22.058,-9.15 -21.556,-9.25 -21.3,-9.25 21.3,-9.25 21.556,-9.25 22.058,-9.15 22.532,-8.954 22.957,-8.67 23.32,-8.307 23.604,-7.882 23.8,-7.408 23.9,-6.906 23.9,-6.65 23.9,-0.25 22.4,-0.25 22.4,-6.65 22.395,-6.758 22.353,-6.969 22.27,-7.169 22.15,-7.348 21.998,-7.5 21.819,-7.62 21.619,-7.703 21.408,-7.745 21.3,-7.75 -21.3,-7.75 -21.408,-7.745 -21.619,-7.703 -21.819,-7.62 -21.998,-7.5 -22.15,-7.348 -22.27,-7.169 -22.353,-6.969 -22.395,-6.758 -22.4,-6.65 -22.4,-0.25
Assembly Notes:
  text "recommended tin paste thickness=0.5mm / customer to define the final stencil gap" at -6.25,-10.9 h0.4
Top Component Outline:
  lines w0.1: -23.3,-6.65 ccw(c-21.3,-6.65) -21.3,-8.65 21.3,-8.65 ccw(c21.3,-6.65) 23.3,-6.65 23.3,6.65 ccw(c21.3,6.65) 21.3,8.65 -21.3,8.65 ccw(c-21.3,6.65) -23.3,6.65 -23.3,-6.65
Top 3D Body:
  lines w0.1: -23.3,-6.65 ccw(c-21.3,-6.65) -21.3,-8.65 21.3,-8.65 ccw(c21.3,-6.65) 23.3,-6.65 23.3,6.65 ccw(c21.3,6.65) 21.3,8.65 -21.3,8.65 ccw(c-21.3,6.65) -23.3,6.65 -23.3,-6.65
Top Courtyard:
  lines w0.05: -24.1,-9.45 -24.1,9.45 24.1,9.45 24.1,-9.45 -24.1,-9.45
Top Component Center:
  lines w0.05: -0.5,0 0.5,0 ; 0,-0.5 0,0.5
Top Designator (Mech19):
  text ".Designator" at -7.498,-0.5 h1.5
3D body "3670466.stp": height 5, standoff 0, extent -23.3,-8.65 23.3,8.65

## 3670473 [mm] "Shielding Cabinet, SMT Frame Seamless, 47.3x23.3x5.3mm"
height 5.3
pads (4):
  rect 1x20 smd paste-2539.97 mask-2222: 1(-23.5,0) 1(23.5,0)
  rect 20x1 smd paste-2539.97 mask-2222: 1(0,-11.5) 1(0,11.5)
Top Layer:
  region: -24.25,-1 -24.25,9.65 -24.25,9.906 -24.15,10.408 -23.954,10.882 -23.67,11.307 -23.307,11.67 -22.882,11.954 -22.408,12.15 -21.906,12.25 -21.65,12.25 21.65,12.25 21.906,12.25 22.408,12.15 22.882,11.954 23.307,11.67 23.67,11.307 23.954,10.882 24.15,10.408 24.25,9.906 24.25,9.65 24.25,-1 22.75,-1 22.75,9.65 22.745,9.758 22.703,9.969 22.62,10.169 22.5,10.348 22.348,10.5 22.169,10.62 21.969,10.703 21.758,10.745 21.65,10.75 -21.65,10.75 -21.758,10.745 -21.969,10.703 -22.169,10.62 -22.348,10.5 -22.5,10.348 -22.62,10.169 -22.703,9.969 -22.745,9.758 -22.75,9.65 -22.75,-1
  region: -24.25,-0.25 -24.25,-9.65 -24.25,-9.906 -24.15,-10.408 -23.954,-10.882 -23.67,-11.307 -23.307,-11.67 -22.882,-11.954 -22.408,-12.15 -21.906,-12.25 -21.65,-12.25 21.65,-12.25 21.906,-12.25 22.408,-12.15 22.882,-11.954 23.307,-11.67 23.67,-11.307 23.954,-10.882 24.15,-10.408 24.25,-9.906 24.25,-9.65 24.25,-0.25 22.75,-0.25 22.75,-9.65 22.745,-9.758 22.703,-9.969 22.62,-10.169 22.5,-10.348 22.348,-10.5 22.169,-10.62 21.969,-10.703 21.758,-10.745 21.65,-10.75 -21.65,-10.75 -21.758,-10.745 -21.969,-10.703 -22.169,-10.62 -22.348,-10.5 -22.5,-10.348 -22.62,-10.169 -22.703,-9.969 -22.745,-9.758 -22.75,-9.65 -22.75,-0.25
Top Paste:
  region: -24.25,-0.25 -24.25,-9.65 -24.25,-9.906 -24.15,-10.408 -23.954,-10.882 -23.67,-11.307 -23.307,-11.67 -22.882,-11.954 -22.408,-12.15 -21.906,-12.25 -21.65,-12.25 21.65,-12.25 21.906,-12.25 22.408,-12.15 22.882,-11.954 23.307,-11.67 23.67,-11.307 23.954,-10.882 24.15,-10.408 24.25,-9.906 24.25,-9.65 24.25,-0.25 22.75,-0.25 22.75,-9.65 22.745,-9.758 22.703,-9.969 22.62,-10.169 22.5,-10.348 22.348,-10.5 22.169,-10.62 21.969,-10.703 21.758,-10.745 21.65,-10.75 -21.65,-10.75 -21.758,-10.745 -21.969,-10.703 -22.169,-10.62 -22.348,-10.5 -22.5,-10.348 -22.62,-10.169 -22.703,-9.969 -22.745,-9.758 -22.75,-9.65 -22.75,-0.25
  region: -24.25,0.25 -24.25,9.65 -24.25,9.906 -24.15,10.408 -23.954,10.882 -23.67,11.307 -23.307,11.67 -22.882,11.954 -22.408,12.15 -21.906,12.25 -21.65,12.25 21.65,12.25 21.906,12.25 22.408,12.15 22.882,11.954 23.307,11.67 23.67,11.307 23.954,10.882 24.15,10.408 24.25,9.906 24.25,9.65 24.25,0.25 22.75,0.25 22.75,9.65 22.745,9.758 22.703,9.969 22.62,10.169 22.5,10.348 22.348,10.5 22.169,10.62 21.969,10.703 21.758,10.745 21.65,10.75 -21.65,10.75 -21.758,10.745 -21.969,10.703 -22.169,10.62 -22.348,10.5 -22.5,10.348 -22.62,10.169 -22.703,9.969 -22.745,9.758 -22.75,9.65 -22.75,0.25
Assembly Notes:
  text "recommended tin paste thickness=0.5mm / customer to define the final stencil gap" at -5.85,-13.9 h0.4
Top Component Outline:
  lines w0.1: -23.65,-9.65 ccw(c-21.65,-9.65) -21.65,-11.65 21.65,-11.65 ccw(c21.65,-9.65) 23.65,-9.65 23.65,9.65 ccw(c21.65,9.65) 21.65,11.65 -21.65,11.65 ccw(c-21.65,9.65) -23.65,9.65 -23.65,-9.65
Top 3D Body:
  lines w0.1: -23.65,-9.65 ccw(c-21.65,-9.65) -21.65,-11.65 21.65,-11.65 ccw(c21.65,-9.65) 23.65,-9.65 23.65,9.65 ccw(c21.65,9.65) 21.65,11.65 -21.65,11.65 ccw(c-21.65,9.65) -23.65,9.65 -23.65,-9.65
Top Courtyard:
  lines w0.05: -24.45,-12.45 -24.45,12.45 24.45,12.45 24.45,-12.45 -24.45,-12.45
Top Component Center:
  lines w0.05: -0.5,0 0.5,0 ; 0,-0.5 0,0.5
Top Designator (Mech19):
  text ".Designator" at -7.498,-0.5 h1.5
3D body "3670473.stp": height 5.3, standoff 0, extent -23.65,-11.65 23.65,11.65

## 3670477 [mm] "Shielding Cabinet, SMT Frame Seamless, 47.7x18.2x4mm"
height 4
pads (6):
  rect 1x15 smd paste-2539.97 mask-2222: 1(-23.7,0) 1(23.7,0)
  oval 2.4x1.5 hole 0.8 slot 1.6 at 0 deg: 1(-11.45,8.95) 1(11.45,-8.95)
  rect 20x1 smd paste-2539.97 mask-2222: 1(0,-8.95) 1(0,8.95)
Top Layer:
  region: -24.45,-0.25 -24.45,-7.5 -24.45,-7.717 -24.365,-8.142 -24.2,-8.542 -23.959,-8.902 -23.652,-9.209 -23.292,-9.45 -22.892,-9.615 -22.467,-9.7 -22.25,-9.7 22.25,-9.7 22.467,-9.7 22.892,-9.615 23.292,-9.45 23.652,-9.209 23.959,-8.902 24.2,-8.542 24.365,-8.142 24.45,-7.717 24.45,-7.5 24.45,-0.25 22.95,-0.25 22.95,-7.5 22.947,-7.569 22.92,-7.703 22.867,-7.83 22.791,-7.944 22.694,-8.041 22.58,-8.117 22.453,-8.17 22.319,-8.197 22.25,-8.2 -22.25,-8.2 -22.319,-8.197 -22.453,-8.17 -22.58,-8.117 -22.694,-8.041 -22.791,-7.944 -22.867,-7.83 -22.92,-7.703 -22.947,-7.569 -22.95,-7.5 -22.95,-0.25
  region: -24.45,-1 -24.45,7.5 -24.45,7.717 -24.365,8.142 -24.2,8.542 -23.959,8.902 -23.652,9.209 -23.292,9.45 -22.892,9.615 -22.467,9.7 -22.25,9.7 22.25,9.7 22.467,9.7 22.892,9.615 23.292,9.45 23.652,9.209 23.959,8.902 24.2,8.542 24.365,8.142 24.45,7.717 24.45,7.5 24.45,-1 22.95,-1 22.95,7.5 22.947,7.569 22.92,7.703 22.867,7.83 22.791,7.944 22.694,8.041 22.58,8.117 22.453,8.17 22.319,8.197 22.25,8.2 -22.25,8.2 -22.319,8.197 -22.453,8.17 -22.58,8.117 -22.694,8.041 -22.791,7.944 -22.867,7.83 -22.92,7.703 -22.947,7.569 -22.95,7.5 -22.95,-1
Top Paste:
  region: -24.45,0.25 -24.45,7.5 -24.45,7.717 -24.365,8.142 -24.2,8.542 -23.959,8.902 -23.652,9.209 -23.292,9.45 -22.892,9.615 -22.467,9.7 -22.25,9.7 22.25,9.7 22.467,9.7 22.892,9.615 23.292,9.45 23.652,9.209 23.959,8.902 24.2,8.542 24.365,8.142 24.45,7.717 24.45,7.5 24.45,0.25 22.95,0.25 22.95,7.5 22.947,7.569 22.92,7.703 22.867,7.83 22.791,7.944 22.694,8.041 22.58,8.117 22.453,8.17 22.319,8.197 22.25,8.2 -22.25,8.2 -22.319,8.197 -22.453,8.17 -22.58,8.117 -22.694,8.041 -22.791,7.944 -22.867,7.83 -22.92,7.703 -22.947,7.569 -22.95,7.5 -22.95,0.25
  region: -24.45,-0.25 -24.45,-7.5 -24.45,-7.717 -24.365,-8.142 -24.2,-8.542 -23.959,-8.902 -23.652,-9.209 -23.292,-9.45 -22.892,-9.615 -22.467,-9.7 -22.25,-9.7 22.25,-9.7 22.467,-9.7 22.892,-9.615 23.292,-9.45 23.652,-9.209 23.959,-8.902 24.2,-8.542 24.365,-8.142 24.45,-7.717 24.45,-7.5 24.45,-0.25 22.95,-0.25 22.95,-7.5 22.947,-7.569 22.92,-7.703 22.867,-7.83 22.791,-7.944 22.694,-8.041 22.58,-8.117 22.453,-8.17 22.319,-8.197 22.25,-8.2 -22.25,-8.2 -22.319,-8.197 -22.453,-8.17 -22.58,-8.117 -22.694,-8.041 -22.791,-7.944 -22.867,-7.83 -22.92,-7.703 -22.947,-7.569 -22.95,-7.5 -22.95,-0.25
Assembly Notes:
  text "recommended tin paste thickness=0.5mm / customer to define the final stencil gap" at -5.7,-11.35 h0.4
Top Component Outline:
  lines w0.1: -23.85,-7.6 ccw(c-22.35,-7.6) -22.35,-9.1 22.35,-9.1 ccw(c22.35,-7.6) 23.85,-7.6 23.85,7.6 ccw(c22.35,7.6) 22.35,9.1 -22.35,9.1 ccw(c-22.35,7.6) -23.85,7.6 -23.85,-7.6
Top 3D Body:
  lines w0.1: -23.85,-7.6 ccw(c-22.35,-7.6) -22.35,-9.1 22.35,-9.1 ccw(c22.35,-7.6) 23.85,-7.6 23.85,7.6 ccw(c22.35,7.6) 22.35,9.1 -22.35,9.1 ccw(c-22.35,7.6) -23.85,7.6 -23.85,-7.6
Top Courtyard:
  lines w0.05: -24.45,-9.9 24.65,-9.9 24.65,9.9 -24.45,9.9 -24.45,-9.9
Top Component Center:
  lines w0.05: -0.5,0 0.5,0 ; 0,-0.5 0,0.5
Top Designator (Mech19):
  text ".Designator" at -7.498,-0.5 h1.5
3D body "3670477.stp": height 4, standoff -1, extent -23.85,-9.1 23.85,9.1

## 3670483 [mm] "Shielding Cabinet, SMT Frame Seamless, 48.3x44.3x4.4mm"
height 4.4
pads (6):
  round 1.5 hole 1.3: 1(-24,-8.45) 1(24,8.45)
  rect 1x20 smd paste-2539.97 mask-2222: 1(-24,0) 1(24,0)
  rect 20x1 smd paste-2539.97 mask-2222: 1(0,-22) 1(0,22)
Top Layer:
  region: -24.75,-1 -24.75,19.85 -24.75,20.04 -24.7,20.417 -24.602,20.784 -24.457,21.135 -24.266,21.465 -24.035,21.766 -23.766,22.035 -23.465,22.266 -23.135,22.457 -22.784,22.602 -22.417,22.7 -22.04,22.75 -21.85,22.75 21.85,22.75 22.04,22.75 22.417,22.7 22.784,22.602 23.135,22.457 23.465,22.266 23.766,22.035 24.035,21.766 24.266,21.465 24.457,21.135 24.602,20.784 24.7,20.417 24.75,20.04 24.75,19.85 24.75,-1 23.25,-1 23.25,19.85 23.243,19.987 23.19,20.256 23.085,20.51 22.932,20.738 22.738,20.932 22.51,21.085 22.256,21.19 21.987,21.243 21.85,21.25 -21.85,21.25 -21.987,21.243 -22.256,21.19 -22.51,21.085 -22.738,20.932 -22.932,20.738 -23.085,20.51 -23.19,20.256 -23.243,19.987 -23.25,19.85 -23.25,-1
  region: -24.75,-0.25 -24.75,-19.85 -24.75,-20.04 -24.7,-20.417 -24.602,-20.784 -24.457,-21.135 -24.266,-21.465 -24.035,-21.766 -23.766,-22.035 -23.465,-22.266 -23.135,-22.457 -22.784,-22.602 -22.417,-22.7 -22.04,-22.75 -21.85,-22.75 21.85,-22.75 22.04,-22.75 22.417,-22.7 22.784,-22.602 23.135,-22.457 23.465,-22.266 23.766,-22.035 24.035,-21.766 24.266,-21.465 24.457,-21.135 24.602,-20.784 24.7,-20.417 24.75,-20.04 24.75,-19.85 24.75,-0.25 23.25,-0.25 23.25,-19.85 23.243,-19.987 23.19,-20.256 23.085,-20.51 22.932,-20.738 22.738,-20.932 22.51,-21.085 22.256,-21.19 21.987,-21.243 21.85,-21.25 -21.85,-21.25 -21.987,-21.243 -22.256,-21.19 -22.51,-21.085 -22.738,-20.932 -22.932,-20.738 -23.085,-20.51 -23.19,-20.256 -23.243,-19.987 -23.25,-19.85 -23.25,-0.25
Top Paste:
  region: -24.75,-0.25 -24.75,-19.85 -24.75,-20.04 -24.7,-20.417 -24.602,-20.784 -24.457,-21.135 -24.266,-21.465 -24.035,-21.766 -23.766,-22.035 -23.465,-22.266 -23.135,-22.457 -22.784,-22.602 -22.417,-22.7 -22.04,-22.75 -21.85,-22.75 21.85,-22.75 22.04,-22.75 22.417,-22.7 22.784,-22.602 23.135,-22.457 23.465,-22.266 23.766,-22.035 24.035,-21.766 24.266,-21.465 24.457,-21.135 24.602,-20.784 24.7,-20.417 24.75,-20.04 24.75,-19.85 24.75,-0.25 23.25,-0.25 23.25,-19.85 23.243,-19.987 23.19,-20.256 23.085,-20.51 22.932,-20.738 22.738,-20.932 22.51,-21.085 22.256,-21.19 21.987,-21.243 21.85,-21.25 -21.85,-21.25 -21.987,-21.243 -22.256,-21.19 -22.51,-21.085 -22.738,-20.932 -22.932,-20.738 -23.085,-20.51 -23.19,-20.256 -23.243,-19.987 -23.25,-19.85 -23.25,-0.25
  region: -24.75,0.25 -24.75,19.85 -24.75,20.04 -24.7,20.417 -24.602,20.784 -24.457,21.135 -24.266,21.465 -24.035,21.766 -23.766,22.035 -23.465,22.266 -23.135,22.457 -22.784,22.602 -22.417,22.7 -22.04,22.75 -21.85,22.75 21.85,22.75 22.04,22.75 22.417,22.7 22.784,22.602 23.135,22.457 23.465,22.266 23.766,22.035 24.035,21.766 24.266,21.465 24.457,21.135 24.602,20.784 24.7,20.417 24.75,20.04 24.75,19.85 24.75,0.25 23.25,0.25 23.25,19.85 23.243,19.987 23.19,20.256 23.085,20.51 22.932,20.738 22.738,20.932 22.51,21.085 22.256,21.19 21.987,21.243 21.85,21.25 -21.85,21.25 -21.987,21.243 -22.256,21.19 -22.51,21.085 -22.738,20.932 -22.932,20.738 -23.085,20.51 -23.19,20.256 -23.243,19.987 -23.25,19.85 -23.25,0.25
Assembly Notes:
  text "recommended tin paste thickness=0.5mm / customer to define the final stencil gap" at -5.85,-24.3 h0.4
Top Component Outline:
  lines w0.1: -24.15,-19.9 ccw(c-21.9,-19.9) -21.9,-22.15 21.9,-22.15 ccw(c21.9,-19.9) 24.15,-19.9 24.15,19.9 ccw(c21.9,19.9) 21.9,22.15 -21.9,22.15 ccw(c-21.9,19.9) -24.15,19.9 -24.15,-19.9
Top 3D Body:
  lines w0.1: -24.15,-19.9 ccw(c-21.9,-19.9) -21.9,-22.15 21.9,-22.15 ccw(c21.9,-19.9) 24.15,-19.9 24.15,19.9 ccw(c21.9,19.9) 21.9,22.15 -21.9,22.15 ccw(c-21.9,19.9) -24.15,19.9 -24.15,-19.9
Top Courtyard:
  lines w0.05: -24.95,-22.95 -24.95,22.95 24.95,22.95 24.95,-22.95 -24.95,-22.95
Top Component Center:
  lines w0.05: -0.5,0 0.5,0 ; 0,-0.5 0,0.5
Top Designator (Mech19):
  text ".Designator" at -7.498,-0.5 h1.5
3D body "3670483.stp": height 4.4, standoff -1, extent -24.15,-22.15 24.15,22.15

## 3670511 [mm] "Shielding Cabinet, SMT Frame Seamless, 51.1x25.7x6.5mm"
height 6.5
pads (6):
  rect 1x20 smd paste-2539.97 mask-2222: 1(-25.4,0) 1(25.4,0)
  oval 2.7x1.5 hole 0.8 slot 1.8 at 0 deg: 1(-6.35,-12.7) 1(6.35,12.7)
  rect 20x1 smd paste-2539.97 mask-2222: 1(0,-12.7) 1(0,12.7)
Top Layer:
  region: -26.15,-0.25 -26.15,-9.85 -26.15,-10.086 -26.088,-10.554 -25.966,-11.01 -25.786,-11.446 -25.55,-11.854 -25.262,-12.229 -24.929,-12.562 -24.554,-12.85 -24.146,-13.086 -23.71,-13.266 -23.254,-13.388 -22.786,-13.45 -22.55,-13.45 22.55,-13.45 22.786,-13.45 23.254,-13.388 23.71,-13.266 24.146,-13.086 24.554,-12.85 24.929,-12.562 25.262,-12.229 25.55,-11.854 25.786,-11.446 25.966,-11.01 26.088,-10.554 26.15,-10.086 26.15,-9.85 26.15,-0.25 24.65,-0.25 24.65,-9.85 24.64,-10.056 24.56,-10.46 24.402,-10.84 24.173,-11.182 23.882,-11.473 23.54,-11.702 23.16,-11.86 22.756,-11.94 22.55,-11.95 -22.55,-11.95 -22.756,-11.94 -23.16,-11.86 -23.54,-11.702 -23.882,-11.473 -24.173,-11.182 -24.402,-10.84 -24.56,-10.46 -24.64,-10.056 -24.65,-9.85 -24.65,-0.25
  region: -26.15,-1 -26.15,9.85 -26.15,10.086 -26.088,10.554 -25.966,11.01 -25.786,11.446 -25.55,11.854 -25.262,12.229 -24.929,12.562 -24.554,12.85 -24.146,13.086 -23.71,13.266 -23.254,13.388 -22.786,13.45 -22.55,13.45 22.55,13.45 22.786,13.45 23.254,13.388 23.71,13.266 24.146,13.086 24.554,12.85 24.929,12.562 25.262,12.229 25.55,11.854 25.786,11.446 25.966,11.01 26.088,10.554 26.15,10.086 26.15,9.85 26.15,-1 24.65,-1 24.65,9.85 24.64,10.056 24.56,10.46 24.402,10.84 24.173,11.182 23.882,11.473 23.54,11.702 23.16,11.86 22.756,11.94 22.55,11.95 -22.55,11.95 -22.756,11.94 -23.16,11.86 -23.54,11.702 -23.882,11.473 -24.173,11.182 -24.402,10.84 -24.56,10.46 -24.64,10.056 -24.65,9.85 -24.65,-1
Top Paste:
  region: -26.15,0.25 -26.15,9.85 -26.15,10.086 -26.088,10.554 -25.966,11.01 -25.786,11.446 -25.55,11.854 -25.262,12.229 -24.929,12.562 -24.554,12.85 -24.146,13.086 -23.71,13.266 -23.254,13.388 -22.786,13.45 -22.55,13.45 22.55,13.45 22.786,13.45 23.254,13.388 23.71,13.266 24.146,13.086 24.554,12.85 24.929,12.562 25.262,12.229 25.55,11.854 25.786,11.446 25.966,11.01 26.088,10.554 26.15,10.086 26.15,9.85 26.15,0.25 24.65,0.25 24.65,9.85 24.64,10.056 24.56,10.46 24.402,10.84 24.173,11.182 23.882,11.473 23.54,11.702 23.16,11.86 22.756,11.94 22.55,11.95 -22.55,11.95 -22.756,11.94 -23.16,11.86 -23.54,11.702 -23.882,11.473 -24.173,11.182 -24.402,10.84 -24.56,10.46 -24.64,10.056 -24.65,9.85 -24.65,0.25
  region: -26.15,-0.25 -26.15,-9.85 -26.15,-10.086 -26.088,-10.554 -25.966,-11.01 -25.786,-11.446 -25.55,-11.854 -25.262,-12.229 -24.929,-12.562 -24.554,-12.85 -24.146,-13.086 -23.71,-13.266 -23.254,-13.388 -22.786,-13.45 -22.55,-13.45 22.55,-13.45 22.786,-13.45 23.254,-13.388 23.71,-13.266 24.146,-13.086 24.554,-12.85 24.929,-12.562 25.262,-12.229 25.55,-11.854 25.786,-11.446 25.966,-11.01 26.088,-10.554 26.15,-10.086 26.15,-9.85 26.15,-0.25 24.65,-0.25 24.65,-9.85 24.64,-10.056 24.56,-10.46 24.402,-10.84 24.173,-11.182 23.882,-11.473 23.54,-11.702 23.16,-11.86 22.756,-11.94 22.55,-11.95 -22.55,-11.95 -22.756,-11.94 -23.16,-11.86 -23.54,-11.702 -23.882,-11.473 -24.173,-11.182 -24.402,-10.84 -24.56,-10.46 -24.64,-10.056 -24.65,-9.85 -24.65,-0.25
Assembly Notes:
  text "recommended tin paste thickness=0.5mm / customer to define the final stencil gap" at -6.3,-15.4 h0.4
Top Component Outline:
  lines w0.1: -25.55,-9.85 ccw(c-22.55,-9.85) -22.55,-12.85 22.55,-12.85 ccw(c22.55,-9.85) 25.55,-9.85 25.55,9.85 ccw(c22.55,9.85) 22.55,12.85 -22.55,12.85 ccw(c-22.55,9.85) -25.55,9.85 -25.55,-9.85
Top 3D Body:
  lines w0.1: -25.55,-9.85 ccw(c-22.55,-9.85) -22.55,-12.85 22.55,-12.85 ccw(c22.55,-9.85) 25.55,-9.85 25.55,9.85 ccw(c22.55,9.85) 22.55,12.85 -22.55,12.85 ccw(c-22.55,9.85) -25.55,9.85 -25.55,-9.85
Top Courtyard:
  lines w0.05: -26.35,-13.65 -26.35,13.65 26.35,13.65 26.35,-13.65 -26.35,-13.65
Top Component Center:
  lines w0.05: -0.5,0 0.5,0 ; 0,-0.5 0,0.5
Top Designator (Mech19):
  text ".Designator" at -7.498,-0.5 h1.5
3D body "3670511.stp": height 6.5, standoff -0.6, extent -25.55,-12.85 25.55,12.85